# Altium footprint library SAW_DCC6_SM3030-6_3x3.pcblib: 1 footprints
Each footprint in its own frame and in the unit in brackets; x right, y up, seen from the top. Pads: shape width x height; smd on the part's side, far side on the other; paste and mask are expansions set on the pad; w line width, h text height; cw(c..) or ccw(c..) is an arc to the next point about the centre after c.
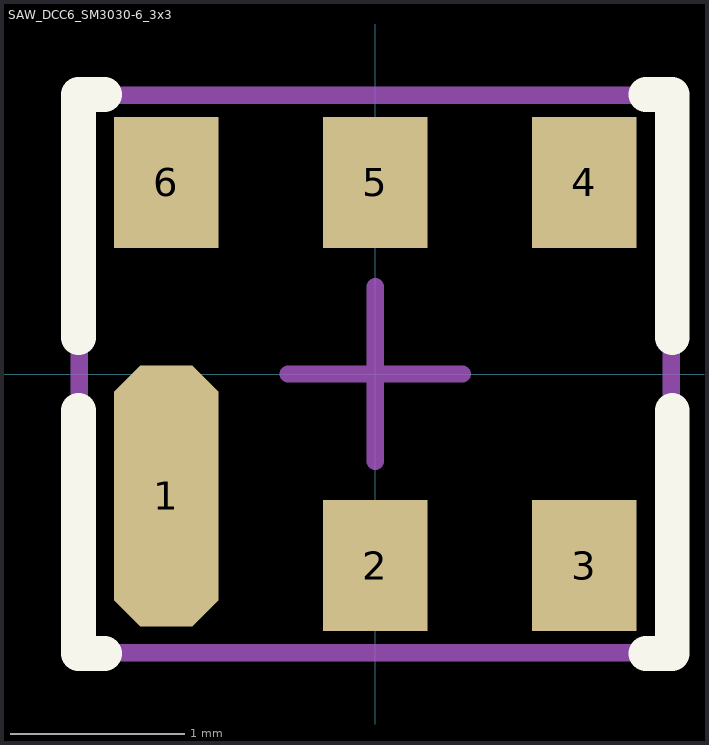
[diagram p0: the footprint, top view; thin cyan lines are the x and y axes]

## SAW_DCC6_SM3030-6_3x3 [mm]
pads (6):
  oct 0.6x1.5 smd: 1(-1.2,-0.7)
  rect 0.6x0.75 smd: 2(0,-1.1) 3(1.2,-1.1) 4(1.2,1.1) 5(0,1.1) 6(-1.2,1.1)
Top Overlay:
  lines w0.2: -1.705,-0.208 -1.705,-1.605 -1.555,-1.605 ; -1.705,0.208 -1.705,1.605 -1.555,1.605 ; 1.555,-1.605 1.705,-1.605 1.705,-0.208 ; 1.555,1.605 1.705,1.605 1.705,0.208
Mechanical 13:
  lines w0.1: -1.7,-1.6 -1.7,1.6 1.7,1.6 1.7,-1.6 -1.7,-1.6
Mechanical 15:
  lines w0.1: -0.5,0 0.5,0 ; 0,-0.5 0,0.5 ; -1.7,-1.6 -1.7,1.6 1.7,1.6 1.7,-1.6 -1.7,-1.6
Mechanical 17:
  text "'.Designator'" at -1.524,-0.127 h0.51
Mechanical 19:
  text "'.Comment'" at -1.524,-0.127 h0.51
3D body "SW3dPS-DCC6C.STEP": height 1.14, standoff -0.09, extent -1.5,-1.5 1.5,1.5